# EAGLE library part 15EDGRC-3.81-17P (library con-degson)
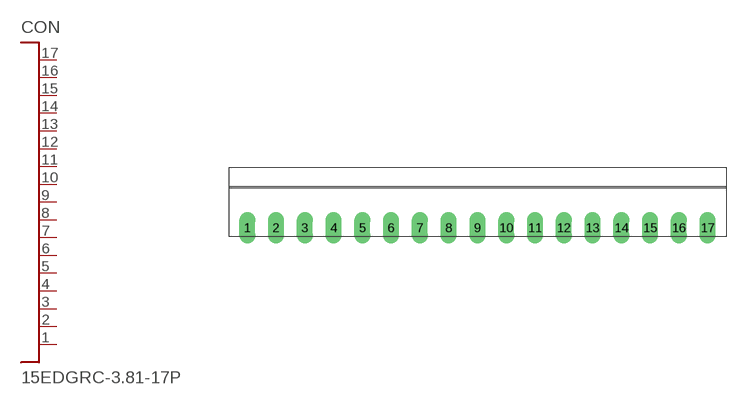
[diagram p34: symbol with the pads of 15EDGRC-3.81-17P; footprint 15EDGRC-3.81-17P]

Designator prefix CON

## 15EDGRC-3.81-17P  [15EDGRC-3.81-17P]
1  P$1
2  P$2
3  P$3
4  P$4
5  P$5
6  P$6
7  P$7
8  P$8
9  P$9
10  P$10
11  P$11
12  P$12
13  P$13
14  P$14
15  P$15
16  P$16
17  P$17

## Footprint 15EDGRC-3.81-17P (pad centres in mm)
drill 1.4 long: 1 -30.48,0; 2 -26.67,0; 3 -22.86,0; 4 -19.05,0; 5 -15.24,0; 6 -11.43,0; 7 -7.62,0; 8 -3.81,0; 9 0,0; 10 3.81,0; 11 7.62,0; 12 11.43,0; 13 15.24,0; 14 19.05,0; 15 22.86,0; 16 26.67,0; 17 30.48,0